# EAGLE library part LM13700N (library ic)
Dual Operational Transconductance Amplifiers Check prices <https://pricing.snapeda.com/parts/LM13700N/NOPB/Texas%20Instruments/view-part?ref=eda>
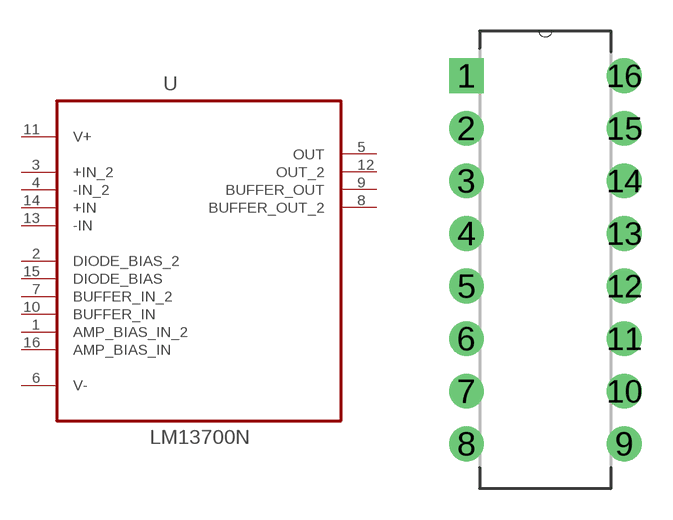
[diagram p1: symbol with the pads of DIP254P762X508-16; footprint DIP254P762X508-16]

Designator prefix U

## LM13700N (LINK: https://eu.mouser.com/ProductDetail/Texas-Instruments/LM13700N-NOPB?qs=X1J7HmVL2ZFKw9D7azZDXw%3D%3D; MPN: LM13700N/NOPB; SUPPLIER: Mouser)  [DIP254P762X508-16]
1  AMP_BIAS_IN_2  in
2  DIODE_BIAS_2  in
3  +IN_2  in
4  -IN_2  in
5  OUT  out
6  V-  pwr
7  BUFFER_IN_2  in
8  BUFFER_OUT_2  out
9  BUFFER_OUT  out
10  BUFFER_IN  in
11  V+  pwr
12  OUT_2  out
13  -IN  in
14  +IN  in
15  DIODE_BIAS  in
16  AMP_BIAS_IN  in

## Footprint DIP254P762X508-16 (pad centres in mm)
drill 1.118 square: 1 -7.62,17.78
drill 1.118: 2 -7.62,15.24; 3 -7.62,12.7; 4 -7.62,10.16; 5 -7.62,7.62; 6 -7.62,5.08; 7 -7.62,2.54; 8 -7.62,0; 9 0,0; 10 0,2.54; 11 0,5.08; 12 0,7.62; 13 0,10.16; 14 0,12.7; 15 0,15.24; 16 0,17.78